# EAGLE library part 3.5MM-JACK-4-TIP-RING (library Harrington-Connectors v41)
4-pin 3.5mm Jack with tip and ring switches CUI Devices - Max Voltage: 12V - Max Current: 1A
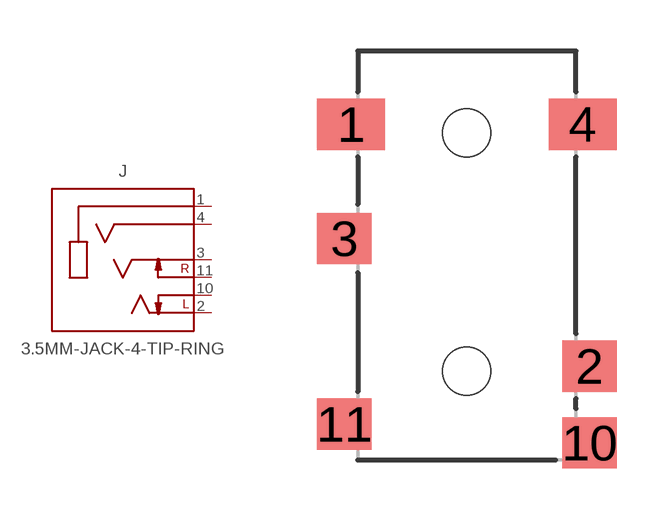
[diagram p2: symbol with the pads of SJ2-358940-SMT; footprint SJ2-358940-SMT]

Designator prefix J

## 3.5MM-JACK-4-TIP-RING  [SJ2-358940-SMT]
1  SLEEVE  pwr
2  TIP
3  RING_1
4  RING_2
10  TIP_SWITCH  out
11  RING_1_SWITCH  out

## Footprint SJ2-358940-SMT (pad centres in mm)
smd 2 x 1.5: 1 -3.4,-2.15; 4 3.4,-2.15
smd 1.6 x 1.5: 2 3.6,-9.25; 3 -3.6,-5.5; 10 3.6,-11.5; 11 -3.6,-10.95
hole 1.4 at 0,-2.4
hole 1.4 at 0,-9.4